# Altium footprint library CTM1051KY大方块.PcbLib: 1 footprints
Each footprint in its own frame and in the unit in brackets; x right, y up, seen from the top. Pads: shape width x height; smd on the part's side, far side on the other; paste and mask are expansions set on the pad; w line width, h text height; cw(c..) or ccw(c..) is an arc to the next point about the centre after c.
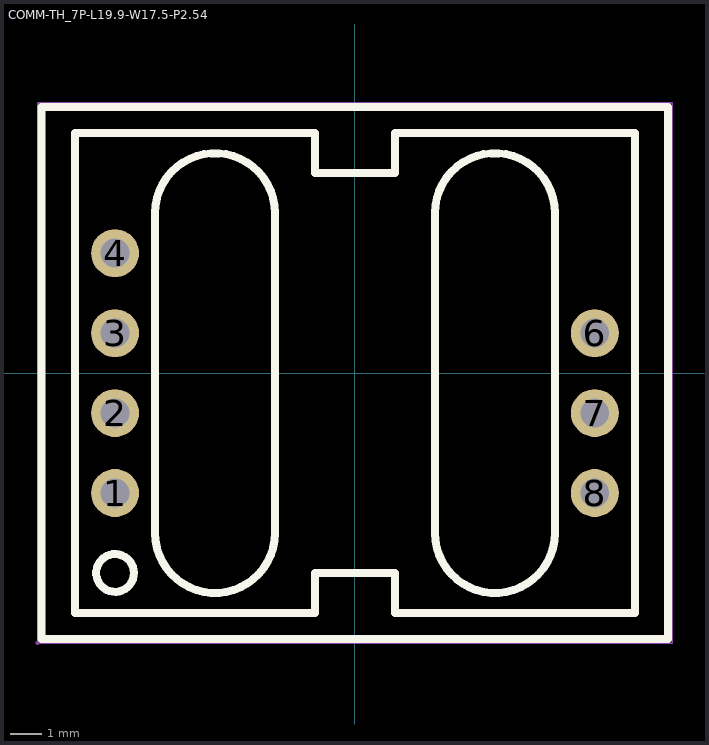
[diagram p0: the footprint, top view; thin cyan lines are the x and y axes]

## COMM-TH_7P-L19.9-W17.5-P2.54 [mil]
pads (7):
  round 60 hole 36 mask+2: 1(-300,-150) 2(-300,-50) 3(-300,50) 4(-300,150) 6(300,50) 7(300,-50) 8(300,-150)
Top Overlay:
  circle w10: c-300,-250 r23.62
  lines w10: -391.73,-332.68 -391.73,332.68 391.73,332.68 391.73,-332.68 -391.73,-332.68 ; -350,-300 -350,300 -50,300 -50,250 50,250 50,300 350,300 350,-300 50,-300 50,-250 -50,-250 -50,-300 -350,-300 ; -250,-200 ccw(c-175,-200) -100,-200 -100,200 ccw(c-175,200) -250,200 -250,-200 ; 100,-200 ccw(c175,-200) 250,-200 250,200 ccw(c175,200) 100,200 100,-200
Mechanical 15:
  drawing of 12 lines, arcs and shapes, not listed
3D body "CTM1051KT.STEP": height 340.55, standoff -74.8, extent -391.74,-344.5 391.72,344.48